# Altium schematic symbol library WP130WCP.SchLib: 1 symbol
Pins are listed as number, name and electrical type; pins without a type are passive.

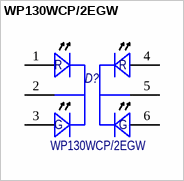
[diagram p0: symbol WP130WCP/2EGW]

## WP130WCP/2EGW
designator D?
2x Bi-Level Circuit Board Indicator; Потребление, Вт: 0.0; Назначение: Circuit Board Indicator; ComponentLink1Description: DataSheet; ComponentLink1URL: http://www.farnell.com/datasheets/2047000.pdf; Наименование: WP130WCP/2EGW
footprint WP130WCP
pins: 1, 2, 3, 4, 5, 6
text: R; G